# Altium footprint library ISP_JTAG.PcbLib: 19 footprints (part 2 of 2)
Each footprint in its own frame and in the unit in brackets; x right, y up, seen from the top. Pads: shape width x height; smd on the part's side, far side on the other; paste and mask are expansions set on the pad; w line width, h text height; cw(c..) or ccw(c..) is an arc to the next point about the centre after c.
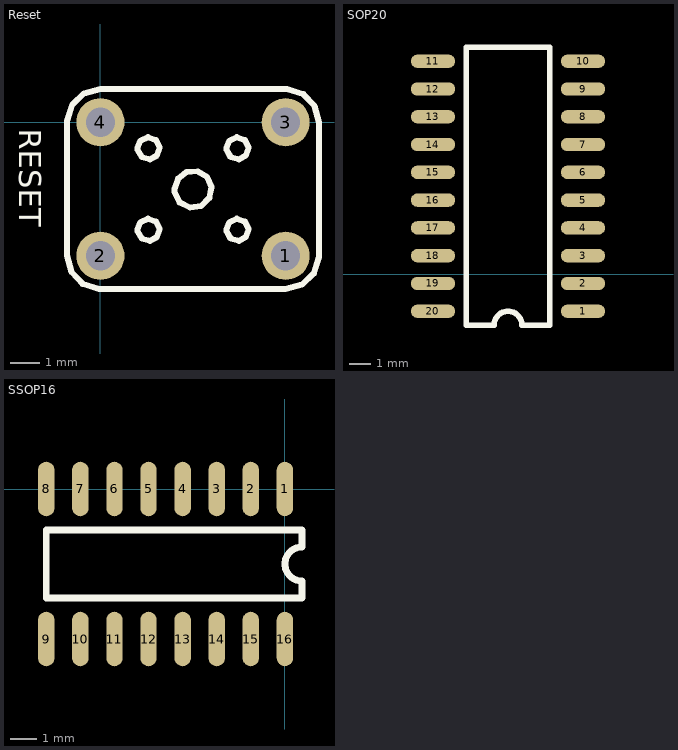
[diagram p1: the footprints below, top view; thin cyan lines are the x and y axes]

## Reset [mil]
height 509.06
pads (4):
  round 65 hole 39.37: 1(250,-180) 2(0,-180) 3(250,0) 4(0,0)
Top Overlay:
  lines w8: -45,-180 -39,-202 -24,-218 -2,-225 0,-225 250,-225 272,-219 288,-204 295,-182 295,-180 295,0 289,22 274,38 252,45 250,45 0,45 -22,39 -38,24 -45,2 -45,0 -45,-180 ; 50,-147 56,-157 67,-160 76,-155 80,-144 75,-134 64,-130 54,-135 50,-145 50,-147 ; 50,-37 56,-47 67,-50 76,-45 80,-34 75,-24 64,-20 54,-25 50,-35 50,-37 ; 100,-94 107,-108 121,-115 136,-113 147,-102 150,-88 144,-74 131,-66 116,-67 105,-76 100,-90 100,-94 ; 170,-147 176,-157 187,-160 196,-155 200,-144 195,-134 184,-130 174,-135 170,-145 170,-147 ; 170,-37 176,-47 187,-50 196,-45 200,-34 195,-24 184,-20 174,-25 170,-35 170,-37
  text "RESET" at -109.84,-8.66 h30

## SOP20 [mil]
height 509.06
pads (20):
  oval 80x24 smd: 1(527.41,-66.22) 2(527.41,-16.22) 3(527.41,33.78) 4(527.41,83.78) 5(527.41,133.78) 6(527.41,183.78) 7(527.41,233.78) 8(527.41,283.78) 9(527.41,333.78) 10(527.41,383.78) 11(257.41,383.78) 12(257.41,333.78) 13(257.41,283.78) 14(257.41,233.78) 15(257.41,183.78) 16(257.41,133.78) 17(257.41,83.78) 18(257.41,33.78) 19(257.41,-16.22) 20(257.41,-66.22)
Top Overlay:
  lines w10: 317.41,-91.22 317.41,408.78 467.41,408.78 467.41,-91.22 417.41,-91.22 ccw(c392.41,-91.22) 367.41,-91.22 317.41,-91.22

## SSOP16 [mil]
height 509.06
pads (16):
  oval 24x80 smd: 1(0.17,0.43) 2(-49.83,0.43) 3(-99.83,0.43) 4(-149.83,0.43) 5(-199.83,0.43) 6(-249.83,0.43) 7(-299.83,0.43) 8(-349.83,0.43) 9(-349.83,-219.57) 10(-299.83,-219.57) 11(-249.83,-219.57) 12(-199.83,-219.57) 13(-149.83,-219.57) 14(-99.83,-219.57) 15(-49.83,-219.57) 16(0.17,-219.57)
Top Overlay:
  lines w10: -349.83,-159.57 25.17,-159.57 25.17,-134.57 cw(c25.17,-109.57) 25.17,-84.57 25.17,-59.57 -349.83,-59.57 -349.83,-159.57